# Altium schematic symbol library Motor.SchLib: 1 symbol
Pins are listed as number, name and electrical type; pins without a type are passive.

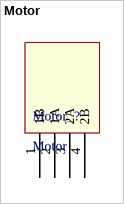
[diagram p0: symbol Motor]

## Motor
designator Motor_?
footprint Motor
pins: 1 1B, 2 1A, 3 2A, 4 2B